# EAGLE library part WE-3-WAY_MULTILINE (library wuerth-elektronik_v2)
Multiline EMI Suppression Ferrite - Filter for common mode or differential mode - High rated current with typ. 4 A -- Perfect suitable for absorption of common or differential mode interferences in the field of EMC -- High current DC output filters of power supplies e.g. battery chargers, industrial power supplies
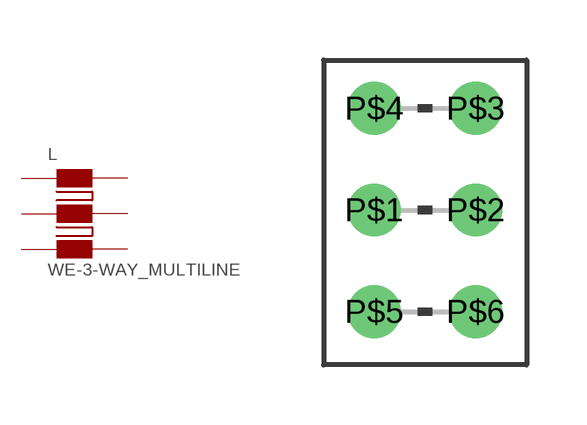
[diagram p1: symbol with the pads of WE-3WAY_74273001; footprint WE-3WAY_74273001]

Designator prefix L

## WE-3-WAY_MULTILINE  [WE-3WAY_74273001]
P$1  P$1  pas
P$2  P$2  pas
P$3  P$3  pas
P$4  P$4  pas
P$5  P$5  pas
P$6  P$6  pas

## Footprint WE-3WAY_74273001 (pad centres in mm)
Multiline Ferrite 3-way
drill 0.813 round: P$1 -1.27,0; P$2 1.27,0; P$3 1.27,2.54; P$4 -1.27,2.54; P$5 -1.27,-2.54; P$6 1.27,-2.54